# Altium footprint library connector.PcbLib: 180 footprints (part 7 of 12)
Each footprint in its own frame and in the unit in brackets; x right, y up, seen from the top. Pads: shape width x height; smd on the part's side, far side on the other; paste and mask are expansions set on the pad; w line width, h text height; cw(c..) or ccw(c..) is an arc to the next point about the centre after c.
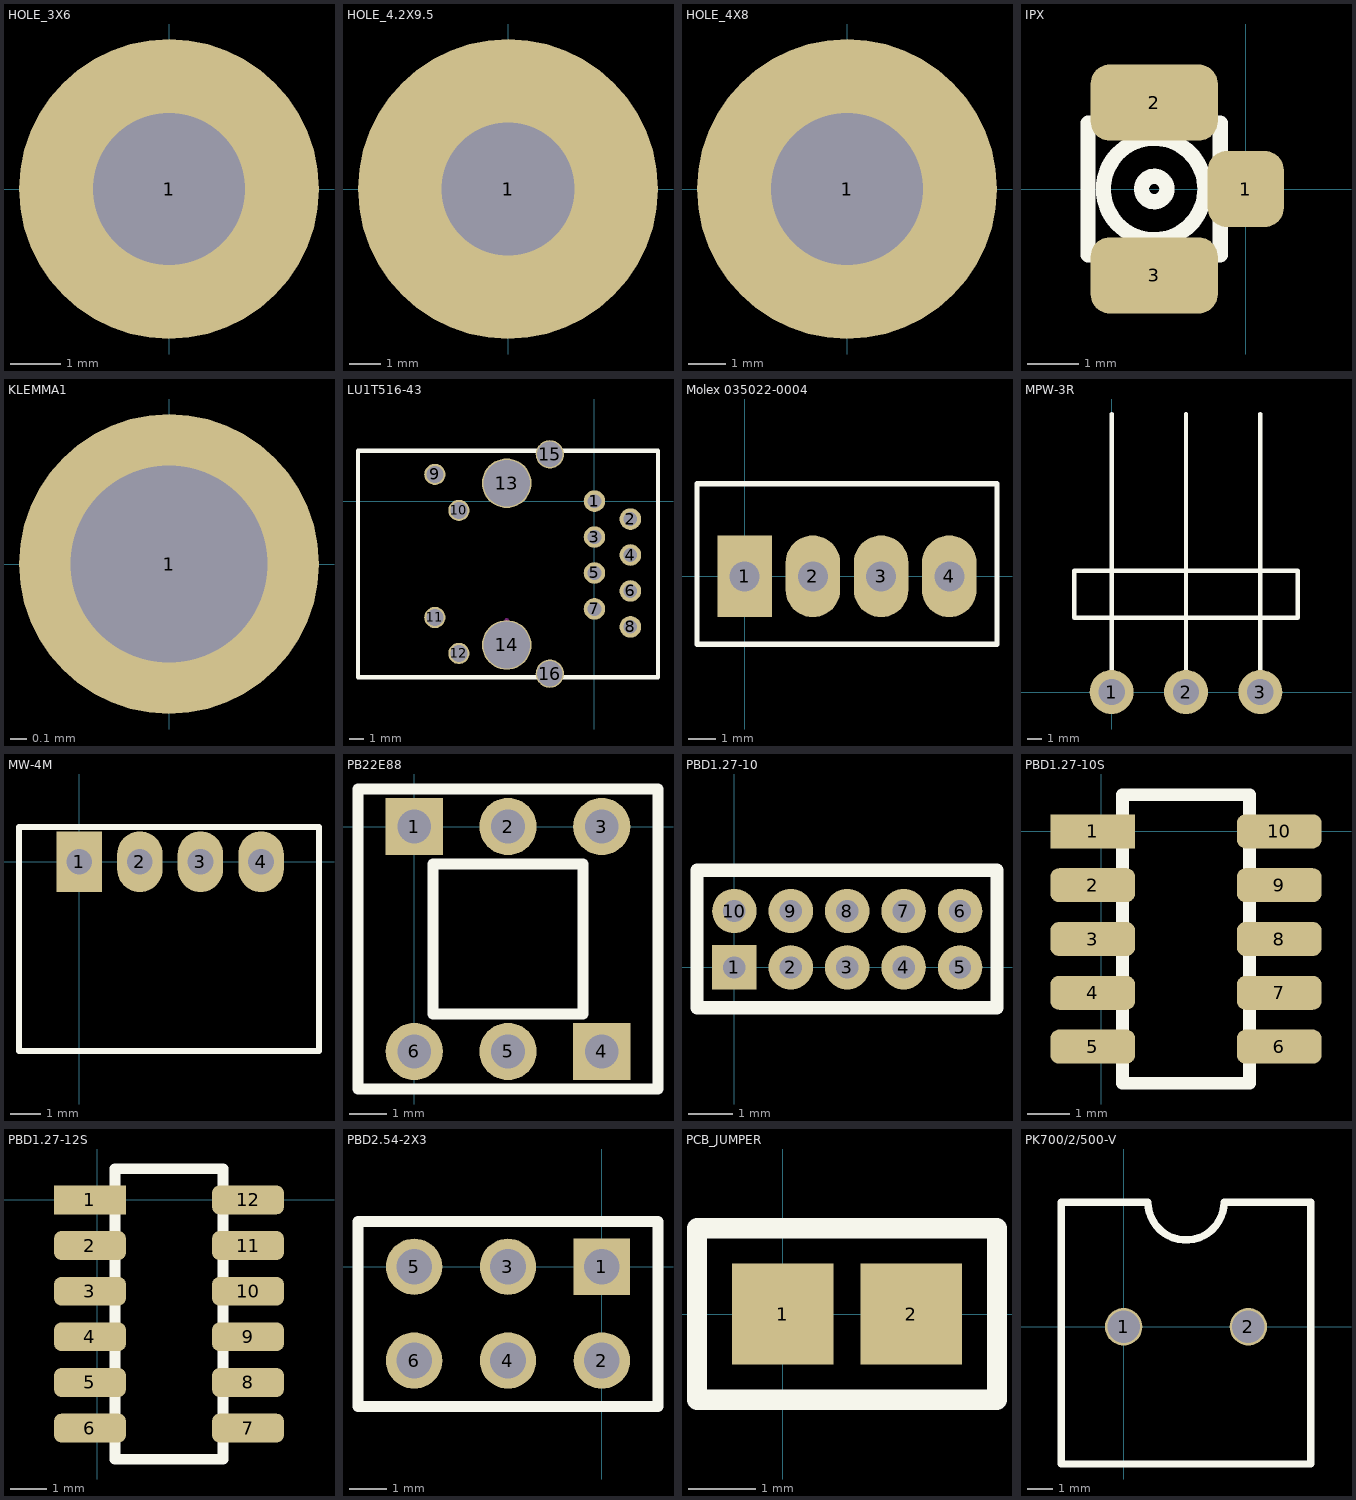
[diagram p6: the footprints below, top view; thin cyan lines are the x and y axes]

## HOLE_3X6 [mm]
pads (1):
  round 6 hole 3.05: 1(0,0)

## HOLE_4.2X9.5 [mm]
pads (1):
  round 9.5 hole 4.2: 1(0,0)

## HOLE_4X8 [mm]
pads (1):
  round 8 hole 4.05: 1(0,0)

## IPX [mm]
pads (3):
  rrect50% 1.5x1.5 smd: 1(0,0)
  rrect50% 2.5x1.5 smd: 2(-1.8,1.7) 3(-1.8,-1.7)
Top Overlay:
  circle w0.3: c-1.8,0 r1
  circle w0.3: c-1.8,0 r0.25
  lines w0.3: -3.1,-1.3 -0.5,-1.3 -0.5,1.3 -3.1,1.3 -3.1,-1.3
3D body "User Library-U_FL-R-SMT-1.SLDPRT": height 1.25, standoff -0.01, extent -3.353,-1.5 -0.253,1.5

## KLEMMA1 [mil]
pads (1):
  round 70 hole 46: 1(0,0)

## LU1T516-43 [mm]
pads (16):
  round 1.524 hole 0.965: 1(0,0.005) 2(2.54,-1.265) 3(0,-2.535) 4(2.54,-3.805) 5(0,-5.075) 6(2.54,-6.345) 7(0,-7.615) 8(2.54,-8.885)
  round 1.5 hole 1.2: 9(-11.28,1.89) 10(-9.58,-0.65) 11(-11.28,-8.22) 12(-9.58,-10.76)
  round 3.5 hole 3.3: 13(-6.2,1.27) 14(-6.2,-10.16)
  round 2 hole 1.8: 15(-3.15,3.31) 16(-3.15,-12.19)
Top Overlay:
  lines w0.3: -16.71,-12.44 -16.71,3.56 4.49,3.56 4.49,-12.44 -16.71,-12.44
Keep-Out Layer:
  lines w0.3: -6.22,-8.42 -6.2,-8.42 ; -3.28,-12.19 -3.07,-12.19

## Molex 035022-0004 [mm]
pads (4):
  rect 2x3 hole 1.1: 1(0,0)
  oval 2x3 hole 1.1: 2(2.5,0) 3(5,0) 4(7.5,0)
Top Overlay:
  lines w0.2: -1.75,-2.5 9.25,-2.5 9.25,3.4 -1.75,3.4 -1.75,-2.5

## MPW-3R [mm]
pads (3):
  round 3 hole 1.8: 1(0,0) 2(5.08,0) 3(10.16,0)
Top Overlay:
  lines w0.3: 0,0 0,18.98 ; 5.08,0 5.08,18.98 ; 10.16,0 10.16,18.98 ; -2.54,5.08 -2.54,8.28 12.7,8.28 12.7,5.08 -2.54,5.08

## MW-4M [mm]
pads (4):
  rect 1.5x2 hole 0.85: 1(0,0)
  oval 1.5x2 hole 0.85: 2(2,0) 3(4,0) 4(6,0)
Top Overlay:
  lines w0.2: -1.988,-6.25 7.912,-6.25 7.912,1.15 -1.988,1.15 -1.988,-6.25

## PB22E88 [mm]
pads (6):
  rect 1.524x1.524 hole 0.9: 1(0,0) 4(5,-6)
  round 1.524 hole 0.9: 2(2.5,0) 3(5,0) 5(2.5,-6) 6(0,-6)
Top Overlay:
  lines w0.3: -1.5,-7 6.5,-7 6.5,1 -1.5,1 ; -1.5,-7 -1.5,1 ; -1.5,-7 -1.5,1 ; 0.5,-5 0.5,-1 4.5,-1 4.5,-5 0.5,-5

## PBD1.27-10 [mm]
pads (10):
  rect 1x1 hole 0.5 unplated: 1(0,0)
  round 1 hole 0.5 unplated: 2(1.27,0) 3(2.54,0) 4(3.81,0) 5(5.08,0) 6(5.08,1.27) 7(3.81,1.27) 8(2.54,1.27) 9(1.27,1.27) 10(0,1.27)
Top Overlay:
  lines w0.3: -0.84,-0.91 -0.84,2.19 5.91,2.19 5.91,-0.91 -0.84,-0.91

## PBD1.27-10S [mm]
pads (10):
  rect 2x0.8 smd: 1(-0.2,0)
  rrect50% 2x0.8 smd: 2(-0.2,-1.27) 3(-0.2,-2.54) 4(-0.2,-3.81) 5(-0.2,-5.08) 6(4.2,-5.08) 7(4.2,-3.81) 8(4.2,-2.54) 9(4.2,-1.27) 10(4.2,0)
Top Overlay:
  lines w0.3: 0.5,-5.945 0.5,0.865 3.5,0.865 3.5,-5.945 0.5,-5.945

## PBD1.27-12S [mm]
pads (12):
  rect 2x0.8 smd: 1(-0.2,0)
  rrect50% 2x0.8 smd: 2(-0.2,-1.27) 3(-0.2,-2.54) 4(-0.2,-3.81) 5(-0.2,-5.08) 6(-0.2,-6.35) 7(4.2,-6.35) 8(4.2,-5.08) 9(4.2,-3.81) 10(4.2,-2.54) 11(4.2,-1.27) 12(4.2,0)
Top Overlay:
  lines w0.3: 0.5,-7.215 3.5,-7.215 3.5,0.865 0.5,0.865 0.5,-7.215

## PBD2.54-2X3 [mil]
pads (6):
  rect 60x60 hole 38: 1(0,0)
  round 60 hole 38: 2(0,-100) 3(-100,0) 4(-100,-100) 5(-200,0) 6(-200,-100)
Top Overlay:
  lines w11.81: -100,48.03 -259.84,48.03 ; -259.84,48.03 -259.84,-148.82 59.84,-148.82 59.84,48.03 -259.84,48.03

## PCB_JUMPER [mm]
pads (2):
  rect 1.5x1.5 smd: 1(0,0) 2(1.905,0)
Top Overlay:
  lines w0.3: -1.27,-1.27 3.175,-1.27 3.175,1.27 -1.27,1.27 -1.27,-1.27

## PK700/2/500-V [mm]
pads (2):
  round 1.5 hole 1.3: 1(0,0) 2(5,0)
Top Overlay:
  lines w0.3: -2.5,-5.5 -2.5,5 0.976,5 ccw(c2.5,5) 4.024,5 7.5,5 7.5,-5.5 -2.5,-5.5